# Altium schematic symbol library 计算机原理课程设计.SCHLIB: 19 symbols
Pins are listed as number, name and electrical type; pins without a type are passive.

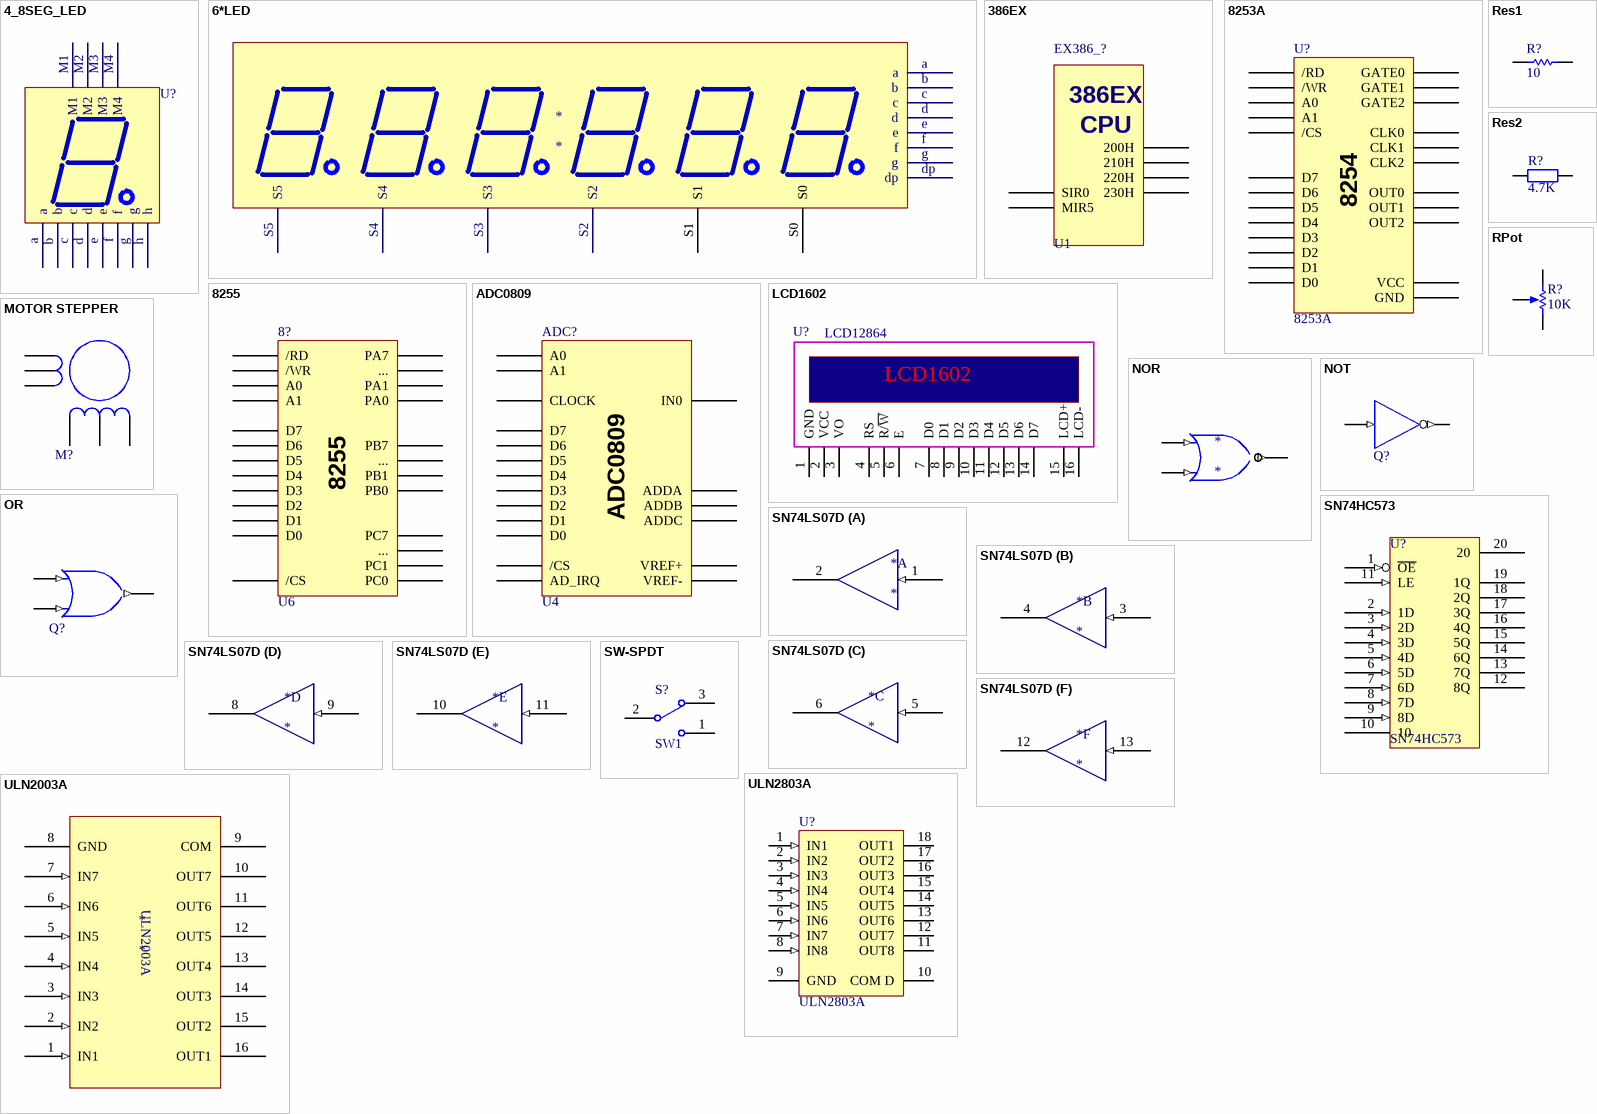
[diagram p0: symbols 4_8SEG_LED to ULN2803A]

## 4_8SEG_LED
designator U?  (value not drawn)
footprint 4-8SLED(B)
footprint 4-8SLED(S)
pins: a, b, c, d, e, f, g, h, M1, M2, M3, M4

## 6*LED
designator *
pins: a, b, c, d, dp, e, f, g, S0, S1, S2, S3, S4, S5

## 386EX
designator EX386_?, comment U1
pins: GND 200H, GND MIR5, GND 210H, GND 220H, GND 230H, GND SIR0
text: CPU

## 8253A
designator U?
pins: GND /RD, GND /WR, GND A0, GND A1, GND D7, GND D6, GND D5, GND D4, GND D3, GND D2, GND D1, GND D0, GND OUT0, GND GATE0, GND CLK0, GND /CS, GND VCC, GND, GND GATE1, GND GATE2, GND CLK1, GND CLK2, GND OUT1, GND OUT2
text: 8254

## 8255
designator 8?, comment U6
pins: GND /RD, GND /WR, GND A0, GND A1, GND D7, GND D6, GND D5, GND D4, GND D3, GND D2, GND D1, GND D0, GND PB1, GND PC7, GND ..., GND PA7, GND ..., GND PA1, GND PB7, GND ..., GND /CS, GND PC1, GND PC0, GND PB0, GND PA0

## ADC0809
designator ADC?, comment U4
pins: GND A0, GND A1, GND CLOCK, GND D7, GND D6, GND D5, GND D4, GND D3, GND D2, GND D1, GND D0, GND AD_IRQ, GND /CS, GND IN0, GND ADDA, GND ADDB, GND ADDC, GND VREF+, GND VREF-

## LCD1602
designator U?, comment LCD12864
footprint LCD1602
pins: 1 GND, 2 VCC, 3 VO, 4 RS, 5 R/~{W}, 6 E, 7 D0, 8 D1, 9 D2, 10 D3, 11 D4, 12 D5, 13 D6, 14 D7, 15 LCD+, 16 LCD-

## MOTOR STEPPER
designator M?  (value not drawn)
pins: 1, 2, 3, 4, 5, 6

## NOR
designator *
pins: 1 A (in), 2 B (in), 3 Y (out)

## NOT
designator Q?  (value not drawn)
Inverter
pins: 1 A (in), 2 Y (out)

## OR
designator Q?  (value not drawn)
OR Gate
pins: 1 A (in), 2 B (in), 3 Y (out)

## Res1
designator R?  value 10  (hidden comment: Res1)
Resistor; Published: 8-Jun-2000; LatestRevisionDate: 17-Jul-2002; LatestRevisionNote: Re-released for DXP Platform.; PackageReference: AXIAL-0.3; Publisher: Altium Limited; PackageDescription: Axial Device, Thru-Hole; 2 Leads; 0.3 in Pin Spacing
footprint AXIAL-0.3 (Axial Device, Thru-Hole; 2 Leads; 0.3 in Pin Spacing)
simulation model RESISTOR (Resistor)
signal-integrity model Res
pins: 1, 2

## Res2
designator R?  value 4.7K  (hidden comment: Res2)
Resistor; Published: 8-Jun-2000; LatestRevisionDate: 17-Jul-2002; LatestRevisionNote: Re-released for DXP Platform.; PackageReference: AXIAL-0.4; Publisher: Altium Limited; PackageDescription: Axial Device, Thru-Hole; 2 Leads; 0.4 in Pin Spacing
footprint AXIAL-0.4 (Axial Device, Thru-Hole; 2 Leads; 0.4 in Pin Spacing)
simulation model RESISTOR (Resistor)
signal-integrity model Res
pins: 1, 2

## RPot
designator R?  value 10K  (hidden comment: RPot)
Potentiometer; Sim Note: Enter the Resistance value and the set point into parameter fields.; Set Position: 0.5; Published: 8-Jun-2000; LatestRevisionDate: 17-Jul-2002; LatestRevisionNote: Re-released for DXP Platform.; PackageReference: VR5; Publisher: Altium Limited; PackageDescription: Variable Resistor, Thru-Hole; 3 Leads
footprint VR5 (Thru-Hole; 3 Leads)
simulation model POT (Potentiometer)
pins: 1 TOP, 2 BOT, 3 TAP
1 alternate drawing of the same symbol

## SN74HC573
designator U?
OCTAL D-TYPE TRANSPARENT LCH 3SO
footprint SO20W
footprint DIP-20
pins: 1 ~{OE} (in), 2 1D (in), 3 2D (in), 4 3D (in), 5 4D (in), 6 5D (in), 7 6D (in), 8 7D (in), 9 8D (in), 10 GND (power) hidden to GND, 10, 11 LE (in), 12 8Q (hiz), 13 7Q (hiz), 14 6Q (hiz), 15 5Q (hiz), 16 4Q (hiz), 17 3Q (hiz), 18 2Q (hiz), 19 1Q (hiz), 20 VCC (power) hidden to VCC, 20
1 alternate drawing of the same symbol

## SN74LS07D
designator *
part A pins: 1 (in), 2
part B pins: 3 (in), 4
part C pins: 5 (in), 6
part D pins: 8, 9 (in)
part E pins: 10, 11 (in)
part F pins: 12, 13 (in)

## SW-SPDT
designator S?, comment SW1
SPDT Subminiature Toggle Switch, Right Angle Mounting, Vertical Actuation; Published: 24-Mar-1999; LatestRevisionDate: 17-Dec-2003; LatestRevisionNote: Schematic revised, PCB Footprint replaced.; DatasheetVersion: 05-Dec-2000; PackageReference: TL36WW15050; Publisher: Altium Limited; PackageDescription: Switch; 4 Leads; ComponentLink1Description: Manufacturer Link; ComponentLink1URL: http://www.apem.com
footprint TL36WW15050 (Switch; 4 Leads)
pins: 1, 2, 3

## ULN2003A
designator *
pins: 1 IN1 (in), 2 IN2 (in), 3 IN3 (in), 4 IN4 (in), 5 IN5 (in), 6 IN6 (in), 7 IN7 (in), 8 GND, 9 COM, 10 OUT7, 11 OUT6, 12 OUT5, 13 OUT4, 14 OUT3, 15 OUT2, 16 OUT1

## ULN2803A
designator U?
High-Voltage, High-Current Darlington Array; Published: 13-Oct-2000; LatestRevisionDate: 06-Jun-2005; LatestRevisionNote: Stylized 3D Model Added.; DatasheetVersion: 1999; PackageVersion: 1999; PackageReference: A18; Publisher: Altium Limited; PackageDescription: DIP; 18 Leads; Row Spacing 7.62 mm; Pitch 2.54 mm; ComponentLink1Description: Manufacturer Link; ComponentLink1URL: http://www.allegromicro.com/
footprint A18 (DIP; 18 Leads; Row Spacing 7.62 mm; Pitch 2.54 mm)
3D model A18 (DIP; 18 Leads; Row Spacing 7.62 mm; Pitch 2.54 mm)
pins: 1 IN1 (in), 2 IN2 (in), 3 IN3 (in), 4 IN4 (in), 5 IN5 (in), 6 IN6 (in), 7 IN7 (in), 8 IN8 (in), 9 GND (power), 10 COM D, 11 OUT8 (oc), 12 OUT7 (oc), 13 OUT6 (oc), 14 OUT5 (oc), 15 OUT4 (oc), 16 OUT3 (oc), 17 OUT2 (oc), 18 OUT1 (oc)